# Altium footprint library CHXXX.pcblib: 121 footprints (part 7 of 8)
Each footprint in its own frame and in the unit in brackets; x right, y up, seen from the top. Pads: shape width x height; smd on the part's side, far side on the other; paste and mask are expansions set on the pad; w line width, h text height; cw(c..) or ccw(c..) is an arc to the next point about the centre after c.
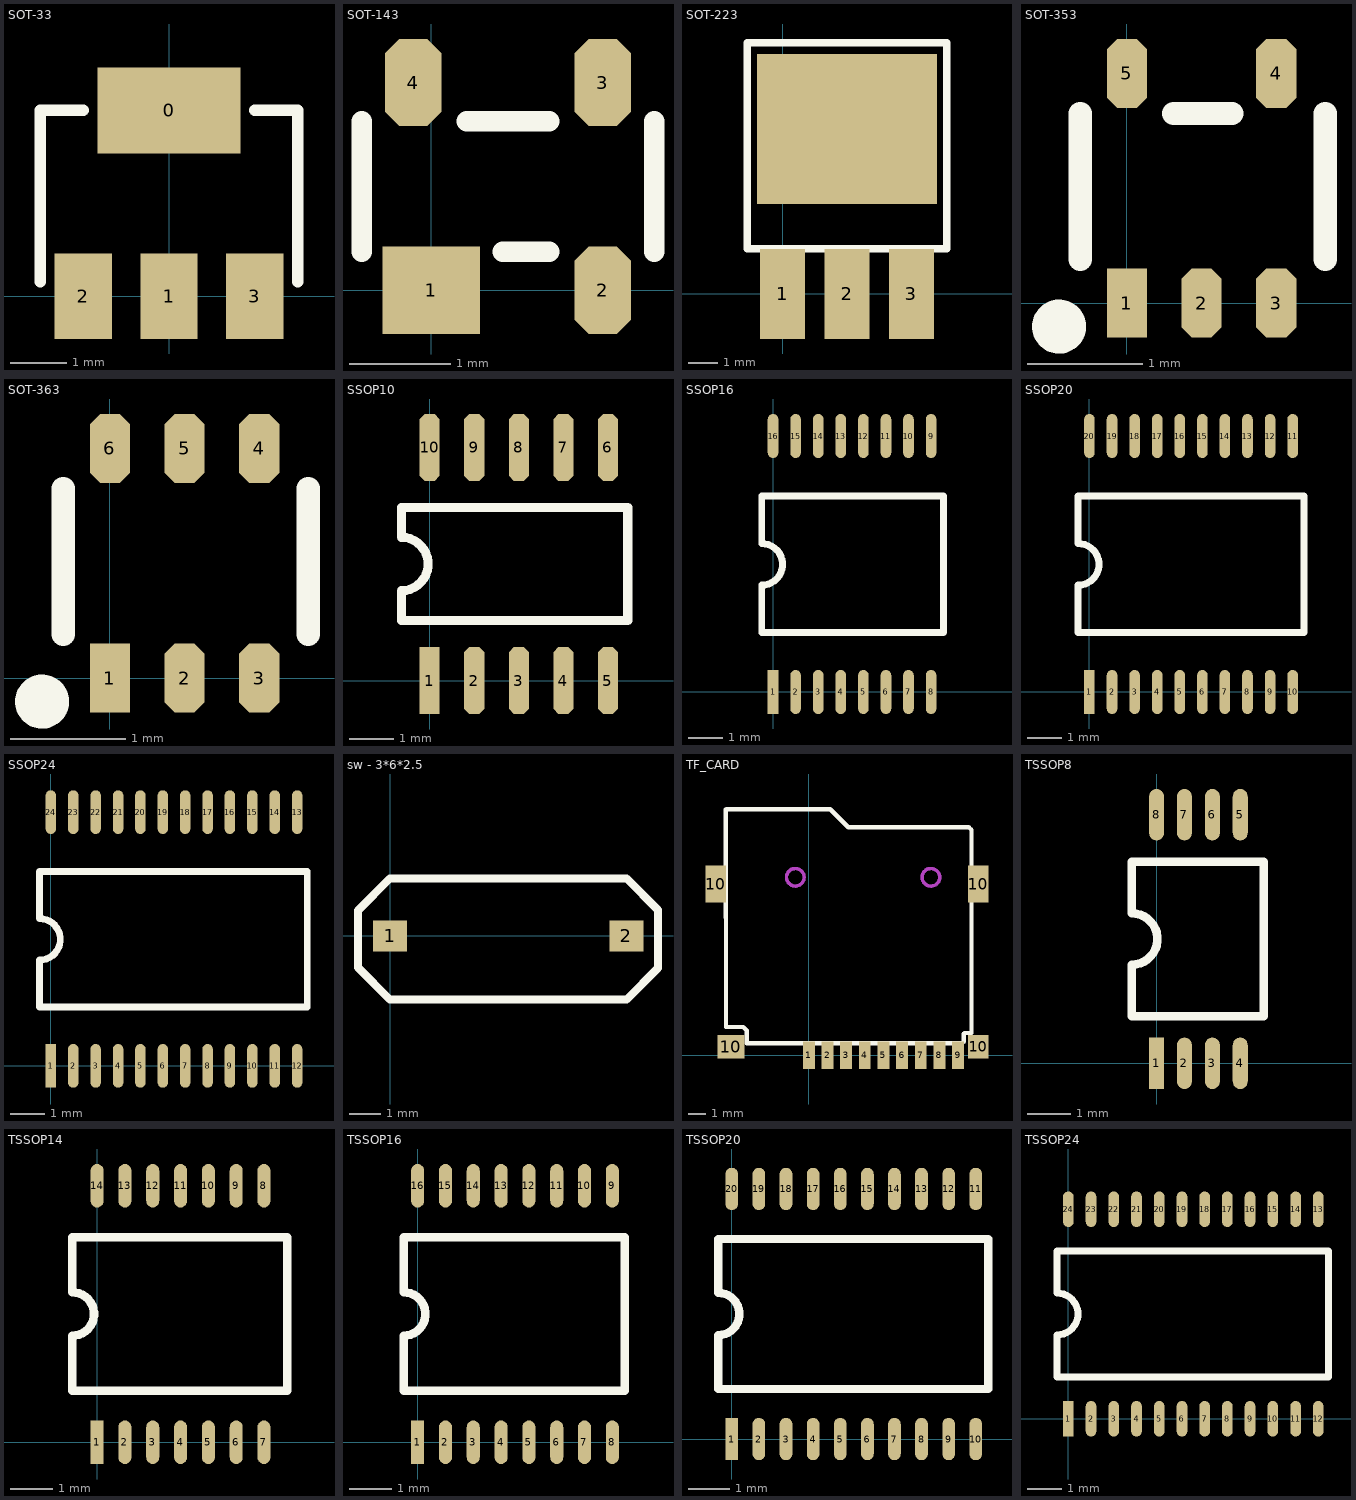
[diagram p6: the footprints below, top view; thin cyan lines are the x and y axes]

## SOT-33 [mil]
pads (4):
  rect 100x60 smd: 0(0,130)
  rect 40x60 smd: 1(0,0) 2(-60,0) 3(60,0)
TopOverlay:
  lines w8: -90,10 -90,130 -60,130 ; 60,130 90,130 90,10

## SOT-143 [mil]
pads (4):
  rect 38x34 smd: 1(0,0)
  oct 22x34 smd: 2(67,0) 3(67,81) 4(-7,81)
TopOverlay:
  lines w8: -27,15 -27,66 ; 14,66 46,66 ; 28,15 46,15 ; 87,15 87,66

## SOT-223 [mil]
pads (4):
  rect 60x120 smd: 1(0,0) 2(86,0) 3(172,0)
  rect 240x200 smd: ""(86,220)
TopOverlay:
  lines w10: -47,60 219,60 219,335 -47,335 -47,60

## SOT-353 [mm]
pads (5):
  rect 0.35x0.6 smd: 1(0,0)
  oct 0.35x0.6 smd: 2(0.65,0) 3(1.3,0) 4(1.3,2) 5(0,2)
TopOverlay:
  circle w0.254: c-0.59,-0.205 r0.108
  lines w0.203: -0.406,0.381 -0.406,1.651 ; 0.406,1.651 0.914,1.651 ; 1.727,0.381 1.727,1.651

## SOT-363 [mm]
pads (6):
  rect 0.35x0.6 smd: 1(0,0)
  oct 0.35x0.6 smd: 2(0.65,0) 3(1.3,0) 4(1.3,2) 5(0.65,2) 6(0,2)
TopOverlay:
  circle w0.254: c-0.59,-0.205 r0.108
  lines w0.203: -0.406,0.381 -0.406,1.651 ; 1.727,0.381 1.727,1.651

## SSOP10 [mm]
pads (10):
  rect 0.45x1.5 smd: 1(0,0)
  oct 0.45x1.5 smd: 2(1,0) 3(2,0) 4(3,0) 5(4,0) 6(4,5.232) 7(3,5.232) 8(2,5.232) 9(1,5.232) 10(0,5.232)
TopOverlay:
  lines w0.203: -0.635,1.346 4.445,1.346 4.445,3.886 -0.635,3.886 -0.635,3.216 cw(c-0.635,2.616) -0.635,2.016 -0.635,1.346

## SSOP16 [mil]
pads (16):
  rect 12x50 smd: 1(0,0)
  oval 12x50 smd: 2(25.6,0) 3(51.2,0) 4(76.8,0) 5(102.4,0) 6(128,0) 7(153.5,0) 8(179.1,0) 9(179.1,290) 10(153.5,290) 11(128,290) 12(102.4,290) 13(76.8,290) 14(51.2,290) 15(25.6,290) 16(0,290)
TopOverlay:
  lines w7.87: -12.79,67.24 193.11,67.24 193.11,221.97 -12.79,221.97 -12.79,168.23 cw(c-12.79,144.61) -12.8,120.98 -12.79,67.24

## SSOP20 [mil]
pads (20):
  rect 12x50 smd: 1(0,0)
  oval 12x50 smd: 2(25.6,0) 3(51.2,0) 4(76.8,0) 5(102.4,0) 6(128,0) 7(153.5,0) 8(179.1,0) 9(204.7,0) 10(230.3,0) 11(230.3,290) 12(204.7,290) 13(179.1,290) 14(153.5,290) 15(128,290) 16(102.4,290) 17(76.8,290) 18(51.2,290) 19(25.6,290) 20(0,290)
TopOverlay:
  lines w7.87: -12.79,67.24 243.11,67.24 243.11,221.97 -12.79,221.97 -12.79,168.23 cw(c-12.79,144.61) -12.8,120.98 -12.79,67.24

## SSOP24 [mil]
pads (24):
  rect 12x50 smd: 1(0,0)
  oval 12x50 smd: 2(25.6,0) 3(51.2,0) 4(76.8,0) 5(102.4,0) 6(128,0) 7(153.5,0) 8(179.1,0) 9(204.7,0) 10(230.3,0) 11(256,0) 12(281.5,0) 13(281.5,290) 14(256,290) 15(230.3,290) 16(204.7,290) 17(179.1,290) 18(153.5,290) 19(128,290) 20(102.4,290) 21(76.8,290) 22(51.2,290) 23(25.6,290) 24(0,290)
TopOverlay:
  lines w7.87: -12.79,67.24 293.11,67.24 293.11,221.97 -12.79,221.97 -12.79,168.23 cw(c-12.79,144.61) -12.8,120.98 -12.79,67.24

## sw - 3*6*2.5 [mm]
pads (2):
  rect 1.1x1 smd: 1(0,0) 2(7.6,0)
TopOverlay:
  lines w0.254: -1.032,-1.018 -1.032,0.818 0,1.85 7.6,1.85 8.614,0.836 8.614,-1.036 7.6,-2.05 0,-2.05 -1.032,-1.018

## TF_CARD [mm]
pads (13):
  rect 0.7x1.6 smd: 1(0,0) 2(1.1,0) 3(2.2,0) 4(3.3,0) 5(4.4,0) 6(5.5,0) 7(6.6,0) 8(7.7,0) 9(8.8,0)
  rect 1.2x2.2 smd: 10(-5.5,10.1) 10(10,10.1)
  rect 1.6x1.4 smd: 10(-4.6,0.5)
  rect 1.2x1.4 smd: 10(10,0.5)
TopOverlay:
  lines w0.254: -4.9,14.5 -4.884,1.667 -3.868,1.667 -3.665,1.464 -3.665,0.702 9.035,0.702 9.136,0.804 9.136,1.261 9.187,1.312 9.594,1.312 ; -4.88,14.52 1.262,14.52 2.329,13.453 9.441,13.453 9.543,13.351 ; 9.594,1.313 9.594,13.302
KeepOutLayer:
  circle w0.2: c-0.8,10.5 r0.52
  circle w0.2: c7.2,10.5 r0.52
Mechanical1:
  circle w0.2: c-0.8,10.5 r0.52
  circle w0.2: c7.2,10.5 r0.52

## TSSOP8 [mm]
pads (8):
  rect 0.35x1.2 smd: 1(0,0)
  oval 0.35x1.2 smd: 2(0.65,0) 3(1.3,0) 4(1.951,0) 5(1.951,5.794) 6(1.3,5.794) 7(0.65,5.794) 8(0,5.794)
TopOverlay:
  lines w0.2: -0.579,1.1 2.497,1.1 2.497,4.694 -0.579,4.694 -0.579,3.497 cw(c-0.579,2.897) -0.579,2.297 -0.579,1.1

## TSSOP14 [mil]
pads (14):
  rect 12x40 smd: 1(0,0)
  oval 12x40 smd: 2(25.6,0) 3(51.2,0) 4(76.8,0) 5(102.4,0) 6(128,0) 7(153.5,0) 8(153.5,236) 9(128,236) 10(102.4,236) 11(76.8,236) 12(51.2,236) 13(25.6,236) 14(0,236)
TopOverlay:
  lines w7.87: -22.8,47.24 -22.8,98 ccw(c-22.8,118) -22.8,138 -22.8,188.76 175.11,188.76 175.11,47.24 -22.8,47.24

## TSSOP16 [mil]
pads (16):
  rect 12x40 smd: 1(0,0)
  oval 12x40 smd: 2(25.6,0) 3(51.2,0) 4(76.8,0) 5(102.4,0) 6(128,0) 7(153.5,0) 8(179.1,0) 9(179.1,236) 10(153.5,236) 11(128,236) 12(102.4,236) 13(76.8,236) 14(51.2,236) 15(25.6,236) 16(0,236)
TopOverlay:
  lines w7.87: -12.79,47.24 190.71,47.24 190.71,188.76 -12.79,188.76 -12.79,138 cw(c-12.79,118) -12.8,98 -12.79,47.24

## TSSOP20 [mil]
pads (20):
  rect 12x40 smd: 1(0,0)
  oval 12x40 smd: 2(25.6,0) 3(51.2,0) 4(76.8,0) 5(102.4,0) 6(128,0) 7(153.5,0) 8(179.1,0) 9(204.7,0) 10(230.3,0) 11(230.3,236) 12(204.7,236) 13(179.1,236) 14(153.5,236) 15(128,236) 16(102.4,236) 17(76.8,236) 18(51.2,236) 19(25.6,236) 20(0,236)
TopOverlay:
  lines w7.87: -12.79,47.24 241.91,47.24 241.91,188.76 -12.79,188.76 -12.79,138 cw(c-12.79,118) -12.8,98 -12.79,47.24

## TSSOP24 [mil]
pads (24):
  rect 12x40 smd: 1(0,0)
  oval 12x40 smd: 2(25.6,0) 3(51.2,0) 4(76.8,0) 5(102.4,0) 6(128,0) 7(153.5,0) 8(179.1,0) 9(204.7,0) 10(230.3,0) 11(256,0) 12(281.5,0) 13(281.5,236) 14(256,236) 15(230.3,236) 16(204.7,236) 17(179.1,236) 18(153.5,236) 19(128,236) 20(102.4,236) 21(76.8,236) 22(51.2,236) 23(25.6,236) 24(0,236)
TopOverlay:
  lines w7.87: -12.79,47.24 -12.79,94.38 ccw(c-12.79,118) -12.79,141.62 -12.79,188.76 293.11,188.76 293.11,47.24 -12.79,47.24